# Altium schematic symbol library HCPL-3120.SchLib: 1 symbol
Pins are listed as number, name and electrical type; pins without a type are passive.

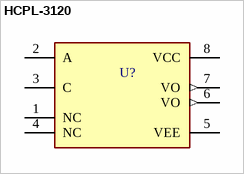
[diagram p0: symbol HCPL-3120]

## HCPL-3120
designator U?  (value not drawn)
footprint HCPL-3120
pins: 1 NC, 2 A, 3 C, 4 NC, 5 VEE (power), 6 VO (out), 7 VO (out), 8 VCC (power)